# Altium footprint library idl-fixed_new.PCBLIB: 92 footprints (part 2 of 6)
Each footprint in its own frame and in the unit in brackets; x right, y up, seen from the top. Pads: shape width x height; smd on the part's side, far side on the other; paste and mask are expansions set on the pad; w line width, h text height; cw(c..) or ccw(c..) is an arc to the next point about the centre after c.
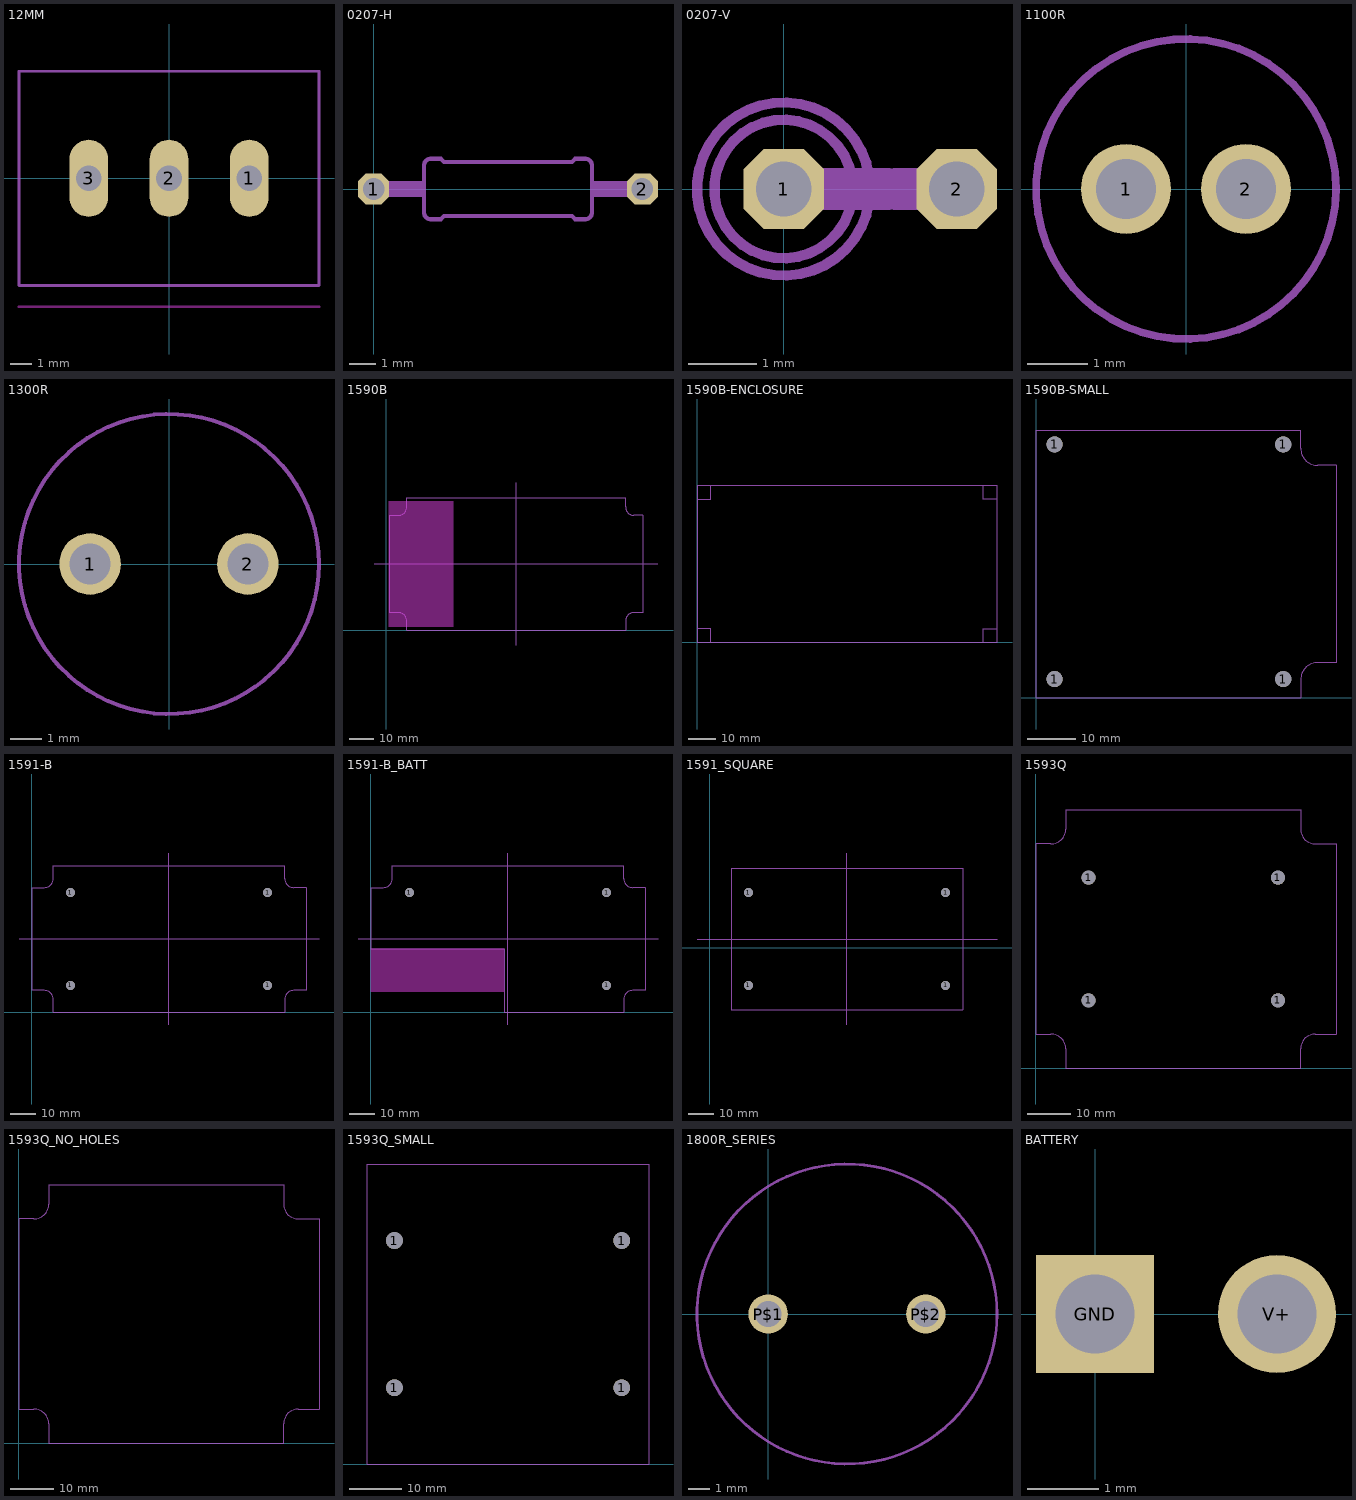
[diagram p1: the footprints below, top view; thin cyan lines are the x and y axes]

## 12MM [mil]
pads (3):
  oval 70.86x141.72 hole 47.24: 1(147.64,0) 2(0,0) 3(-147.64,0)
Keep-Out Layer:
  lines w5: -275.59,-236.22 275.59,-236.22
Mechanical 16:
  lines w5: -196.85,-196.85 196.85,-196.85 ; 196.85,196.85 -196.85,196.85 ; -196.85,196.85 -275.59,196.85 -275.59,-196.85 275.59,-196.85 275.59,196.85 -196.85,196.85

## 0207-H [mil]
pads (2):
  oct 46.48x46.48 hole 32: 1(0,0) 2(400,0)
Mechanical 2:
  rectangle: 325,-12 359,12
  rectangle: 41,-12 75,12
  lines w6: 75,-35 ccw(c85,-35) 85,-45 100,-45 105,-40 295,-40 300,-45 315,-45 ccw(c315,-35) 325,-35 325,35 ccw(c315,35) 315,45 300,45 295,40 105,40 100,45 85,45 ccw(c85,35) 75,35 75,-35
Mechanical 18:
  lines w24: 0,0 40,0 ; 360,0 400,0

## 0207-V [mil]
pads (2):
  oct 46.48x46.48 hole 32: 1(0,0) 2(100,0)
Mechanical 2:
  circle w6: c0,0 r50
  lines w24: 40,0 60,0
Mechanical 18:
  circle w6: c0,0 r40
  lines w24: 0,0 35,0 ; 65,0 100,0

## 1100R [mm]
pads (2):
  round 1.5 hole 1: 1(-1,0) 2(1,0)
Mechanical 2:
  circle w0.127: c0,0 r2.5

## 1300R [mil]
pads (2):
  round 76.77 hole 51.18: 1(-98.43,0) 2(98.43,0)
Mechanical 2:
  circle w5: c0,0 r187.01

## 1590B [mil]
Keep-Out Layer:
  region: 1100,50 1100,2116.93 37.01,2116.93 37.01,50
Mechanical 1:
  lines w0: 50,284.65 50,1879.13 ; 334.65,0 3917.32,0 ; 334.65,2163.78 3917.32,2163.78 ; 4201.97,284.65 4201.97,1879.13
Mechanical 2:
  lines w0: 50,1879.13 196.85,1879.13 ccw(c196.85,2016.93) 334.65,2016.93 334.65,2163.78 ; 3917.32,0 3917.32,146.85 cw(c4055.12,146.85) 4055.12,284.65 4201.97,284.65 ; 3917.32,2163.78 3917.32,2016.93 ccw(c4055.12,2016.93) 4055.12,1879.13 4201.97,1879.13
  lines w5: 50,284.65 196.85,284.65 cw(c196.85,146.85) 334.65,146.85 334.65,0
Mechanical 18:
  lines w5: -196.85,1081.89 4448.82,1081.89 ; 2125.98,-246.85 2125.98,2410.63

## 1590B-ENCLOSURE [mil]
Mechanical 1:
  lines w0: 0,196.85 0,2027.56 ; 0,196.85 0,0 196.85,0 ; 0,196.85 196.85,196.85 196.85,0 ; 0,2027.56 0,2224.41 196.85,2224.41 ; 0,2027.56 196.85,2027.56 196.85,2224.41 ; 196.85,0 4055.12,0 ; 196.85,2224.41 4055.12,2224.41 ; 4055.12,0 4251.97,0 4251.97,196.85 ; 4055.12,0 4055.12,196.85 4251.97,196.85 ; 4055.12,2224.41 4251.97,2224.41 4251.97,2027.56 ; 4055.12,2224.41 4055.12,2027.56 4251.97,2027.56 ; 4251.97,196.85 4251.97,2027.56

## 1590B-SMALL [mil]
pads (4):
  round 130 hole 130: 1(150,150) 1(150,2050) 1(2000,150) 1(2000,2050)
Mechanical 1:
  lines w0: 2142.32,0 0,0 0,2163.78 2142.32,2163.78 ; 2426.97,284.65 2426.97,1879.13
Mechanical 2:
  lines w0: 2142.32,0 2142.32,146.85 cw(c2280.12,146.85) 2280.12,284.65 2426.97,284.65 ; 2142.32,2163.78 2142.32,2016.93 ccw(c2280.12,2016.93) 2280.12,1879.13 2426.97,1879.13

## 1591-B [mil]
pads (4):
  round 137.8 hole 137.8: 1(599.61,1850.39) 1(600.39,413.39) 1(3651.57,413.39) 1(3651.57,1850.39)
Mechanical 1:
  lines w0: 0,334.65 0,1929.13 ; 334.65,0 3917.32,0 ; 334.65,2263.78 3917.32,2263.78 ; 4251.97,334.65 4251.97,1929.13
Mechanical 2:
  lines w0: 0,1929.13 196.85,1929.13 ccw(c196.85,2066.93) 334.65,2066.93 334.65,2263.78 ; 3917.32,0 3917.32,196.85 cw(c4055.12,196.85) 4055.12,334.65 4251.97,334.65 ; 3917.32,2263.78 3917.32,2066.93 ccw(c4055.12,2066.93) 4055.12,1929.13 4251.97,1929.13
  lines w5: 0,334.65 196.85,334.65 cw(c196.85,196.85) 334.65,196.85 334.65,0
Mechanical 18:
  lines w5: -196.85,1131.89 4448.82,1131.89 ; 2125.98,-196.85 2125.98,2460.63

## 1591-B_BATT [mil]
pads (3):
  round 137.8 hole 137.8: 1(599.61,1850.39) 1(3651.57,413.39) 1(3651.57,1850.39)
Keep-Out Layer:
  rectangle: 0,314.96 2066.93,984.25
Mechanical 1:
  lines w0: 0,1929.13 0,984.25 2066.93,984.25 2066.93,0 3917.32,0 ; 334.65,2263.78 3917.32,2263.78 ; 4251.97,334.65 4251.97,1929.13
Mechanical 2:
  lines w0: 0,1929.13 196.85,1929.13 ccw(c196.85,2066.93) 334.65,2066.93 334.65,2263.78 ; 3917.32,0 3917.32,196.85 cw(c4055.12,196.85) 4055.12,334.65 4251.97,334.65 ; 3917.32,2263.78 3917.32,2066.93 ccw(c4055.12,2066.93) 4055.12,1929.13 4251.97,1929.13
Mechanical 18:
  lines w5: -196.85,1131.89 4448.82,1131.89 ; 2125.98,-196.85 2125.98,2460.63

## 1591_SQUARE [mil]
pads (4):
  round 137.8 hole 137.8: 1(599.61,850.39) 1(600.39,-586.61) 1(3651.57,-586.61) 1(3651.57,850.39)
Mechanical 1:
  lines w0: 334.65,-960.63 3917.32,-960.63 3917.32,1224.41 334.65,1224.41 334.65,-960.63
Mechanical 18:
  lines w5: -196.85,131.89 4448.82,131.89 ; 2125.98,-1196.85 2125.98,1460.63

## 1593Q [mm]
pads (4):
  round 3.2 hole 3.2: 1(12.05,15.57) 1(12.05,43.57) 1(55.3,15.57) 1(55.3,43.57)
Mechanical 1:
  lines w0: 0.05,7.85 0.05,51.29 3.47,51.29 ccw(c3.47,54.68) 6.86,54.68 6.86,59.09 60.48,59.09 60.48,54.68 ccw(c63.87,54.68) 63.87,51.29 68.57,51.29 68.57,7.85 63.87,7.85 ccw(c63.87,4.46) 60.48,4.46 60.48,0.05 6.86,0.05 6.86,4.46 ccw(c3.47,4.46) 3.47,7.85 0.05,7.85

## 1593Q_NO_HOLES [mil]
Mechanical 1:
  lines w0: 1.97,309.06 1.97,2019.29 136.61,2019.29 ccw(c136.61,2152.76) 270.08,2152.76 270.08,2326.38 2381.1,2326.38 2381.1,2152.76 ccw(c2514.57,2152.76) 2514.57,2019.29 2699.61,2019.29 2699.61,309.06 2514.57,309.06 ccw(c2514.57,175.59) 2381.1,175.59 2381.1,1.97 270.08,1.97 270.08,175.59 ccw(c136.61,175.59) 136.61,309.06 1.97,309.06

## 1593Q_SMALL [mm]
pads (4):
  round 3.2 hole 3.2: 1(12.05,14.57) 1(12.05,42.57) 1(55.3,14.57) 1(55.3,42.57)
Mechanical 1:
  lines w0: 6.86,0.05 6.86,57.14 60.48,57.14 60.48,0.05 6.86,0.05

## 1800R_SERIES [mil]
pads (2):
  round 70.86 hole 47.24: P$1(0,0) P$2(283.46,0)
Mechanical 2:
  circle w5: c141.73,0 r269.69

## BATTERY [mil]
pads (2):
  rect 64.97x64.97 hole 43.31: GND(0,0)
  round 64.97 hole 43.31: V+(100,0)